# Altium integrated library 2 Pin Terminal Block HDR 3.81MM THT RA TBP02R138102BE.IntLib: 1 symbol
Pins are listed as number, name and electrical type; pins without a type are passive.

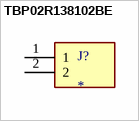
[diagram p0: symbol TBP02R138102BE]

## TBP02R138102BE
designator J?
2~24 Poles, Pluggable,Receptacle, Horizontal, 3.81 Pitch, Terminal Block Connector; MF: Same Sky; MP: TBP02R1-381-02BE; SnapEDA_Link: https://www.snapeda.com/parts/TBP02R1-381-02BE/Same+Sky/view-part/?ref=snap; Package: None; Value: *; Check_prices: https://www.snapeda.com/parts/TBP02R1-381-02BE/Same+Sky/view-part/?ref=eda
footprint CUI_TBP02R138102BE
pins: 1, 2